# EAGLE library part TRACOTMR2WIN (library custom)
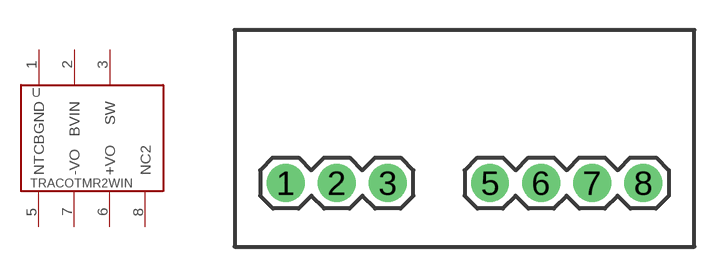
[diagram p2: symbol with the pads of TRACOPOWERDC-DCTRM2WIN; footprint TRACOPOWERDC-DCTRM2WIN]

Designator prefix -

## TRACOTMR2WIN  [TRACOPOWERDC-DCTRM2WIN]
1  BGND  pwr
2  BVIN  pwr
3  SW  in
5  NTC  nc
6  +VO  sup
7  -VO  sup
8  NC2  nc

## Footprint TRACOPOWERDC-DCTRM2WIN (pad centres in mm)
drill 1.016 pad 1.88: 1 -8.89,0; 2 -6.35,0; 3 -3.81,0; 5 1.27,0; 6 3.81,0; 7 6.35,0; 8 8.89,0